# EAGLE library part MM74HC125MTC (library Fairchild_By_element14_Batch_1)
3-STATE Quad Buffers
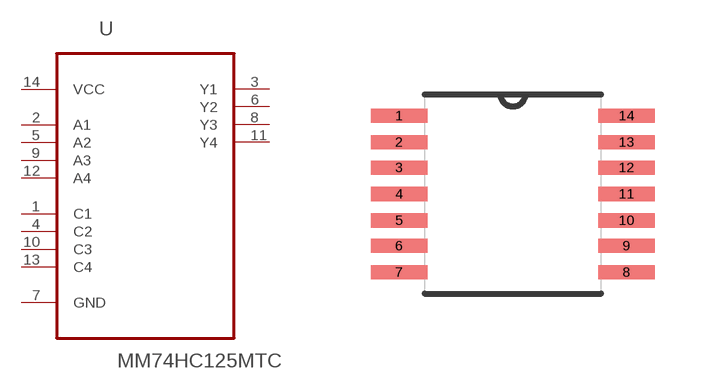
[diagram p241: symbol with the pads of SOP65P640X120-14N; footprint SOP65P640X120-14N]

Designator prefix U

## MM74HC125MTC (MPN: MM74HC125MTC; OC_FARNELL: 1607617; OC_NEWARK: 58K1940; PACKAGE: TSSOP-14; SUPPLIER: FAIRCHILD)  [SOP65P640X120-14N]
1  C1  in
2  A1  in
3  Y1  out
4  C2  in
5  A2  in
6  Y2  out
7  GND  pas
8  Y3  out
9  A3  in
10  C3  in
11  Y4  out
12  A4  in
13  C4  in
14  VCC  pwr

## Footprint SOP65P640X120-14N (pad centres in mm)
smd 1.422 x 0.356: 1 -2.845,1.956; 2 -2.845,1.295; 3 -2.845,0.66; 4 -2.845,0; 5 -2.845,-0.66; 6 -2.845,-1.295; 7 -2.845,-1.956; 8 2.845,-1.956; 9 2.845,-1.295; 10 2.845,-0.66; 11 2.845,0; 12 2.845,0.66; 13 2.845,1.295; 14 2.845,1.956